# Altium footprint library AP2204R50TRG1.PcbLib: 1 footprints
Each footprint in its own frame and in the unit in brackets; x right, y up, seen from the top. Pads: shape width x height; smd on the part's side, far side on the other; paste and mask are expansions set on the pad; w line width, h text height; cw(c..) or ccw(c..) is an arc to the next point about the centre after c.
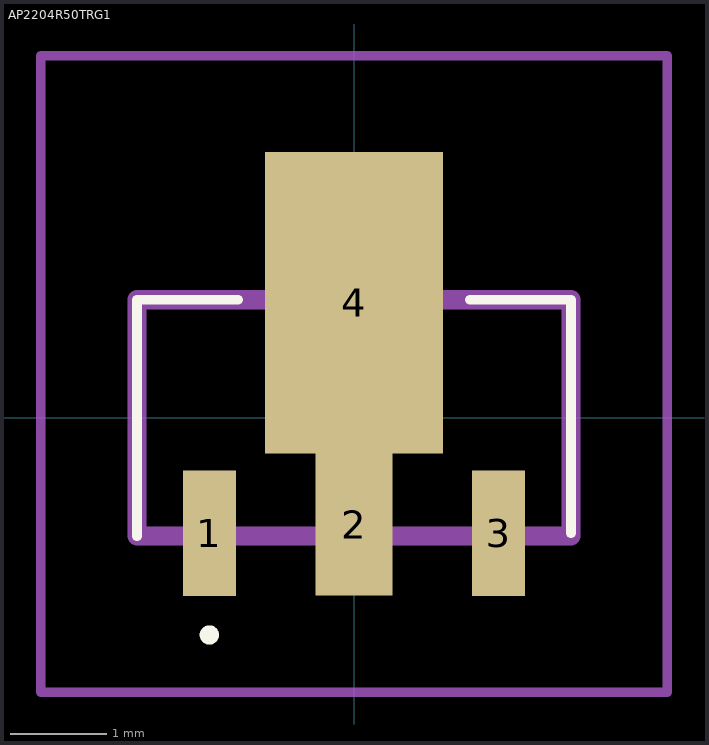
[diagram p0: the footprint, top view; thin cyan lines are the x and y axes]

## AP2204R50TRG1 [mm]
pads (4):
  rect 0.55x1.3 smd: 1(-1.5,-1.194) 3(1.5,-1.194)
  rect 0.8x1.475 smd: 2(0,-1.106)
  rect 1.85x3.125 smd: 4(0,1.194)
Top Overlay:
  lines w0.1: -2.25,-1.225 -2.25,1.225 -1.2,1.225 ; 1.2,1.225 2.25,1.225 2.25,-1.194 ; -1.5,-2.3 cw(c-1.5,-2.25) -1.5,-2.2 ; -1.5,-2.3 -1.5,-2.3 ; -1.5,-2.3 ccw(c-1.5,-2.25) -1.5,-2.2 ; -1.5,-2.2 -1.5,-2.2
Mechanical 15:
  lines w0.2: -2.25,-1.225 2.25,-1.225 2.25,1.225 -2.25,1.225 -2.25,-1.225
Mechanical 20:
  lines w0.1: -3.25,-2.844 3.25,-2.844 3.25,3.756 -3.25,3.756 -3.25,-2.844